# Altium integrated library ON Semi General Purpose Transistors.IntLib: 1679 symbols (part 15 of 36)
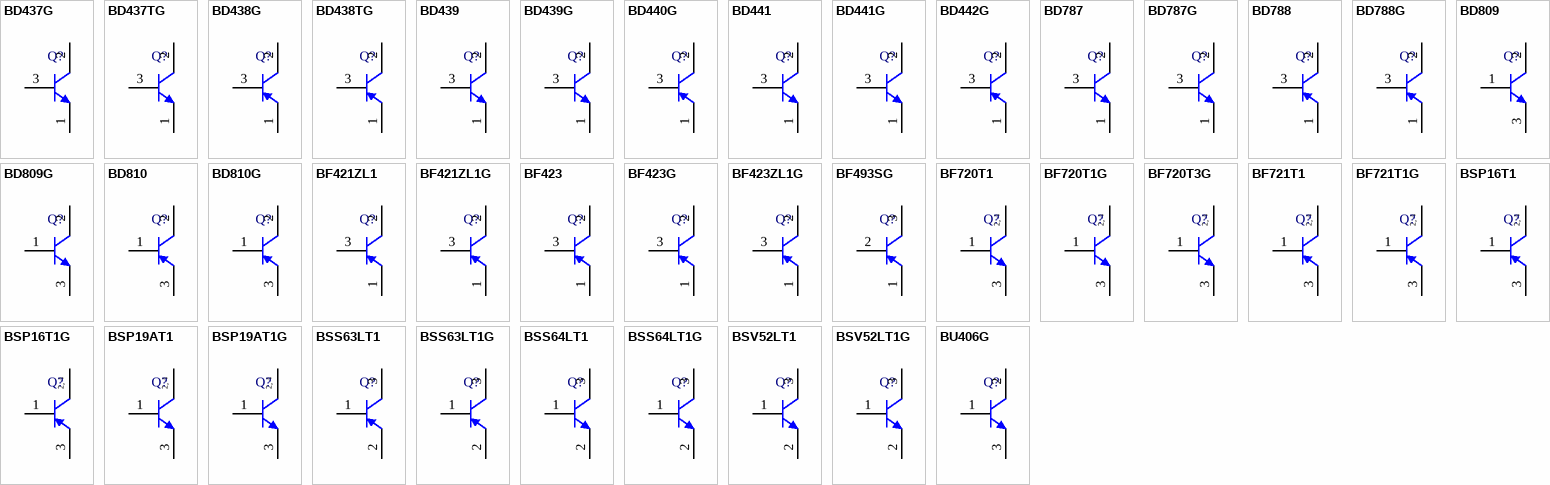
[diagram p59: symbols BD437G to BU406G]

## BF721T1G
designator Q?
PNP Silicon Transistor, 4-Pin SOT-223, Pb-Free, Tape and Reel; Manufacturer: On Semiconductor; PartNumber: BF721T1G; fT Min (MHz): 60; IC Continuous (A): -0.05; DatasheetVersion: Rev. 9; PackageVersion: Rev. N, 08/2009; PackageReference: SOT-223-4-318E-04; PackageDescription: 4-Pin Small Outline Transistor, Body 6.5 x 3.5 mm, Pitch 2.3 mm; Supplier 1: Digi-Key; Supplier Part Number 1: BF721T1GOSTR-ND; Supplier 2: Digi-Key; Supplier Part Number 2: BF721T1GOSCT-ND; Supplier 3: Digi-Key; Supplier Part Number 3: BF721T1GOSDKR-ND; Supplier 4: Farnell; Supplier Part Number 4: 1653613; Supplier 5: Newark; Supplier Part Number 5: 45J0621; Supplier 6: Mouser; Supplier Part Number 6: 863-BF721T1G; Packing: Tape and Reel; Polarity: PNP; RoHS: TRUE; Mounting Technology: Surface Mount; ComponentLink1Description: Manufacturer URL; ComponentLink1URL: http://www.onsemi.com/; ComponentLink2Description: Datasheet; ComponentLink2URL: http://www.onsemi.com/pub_link/Collateral/BF721T1-D.PDF; ComponentLink3Description: Package Specification; ComponentLink3URL: http://www.onsemi.com/pub_link/Collateral/318E-04.PDF
footprint ONSC-SOT-223-4-318E-04_V (SOT223, 4-Leads, Body 6.5x3.5mm, Pitch 2.3mm)
pins: 1 B, 2 C, 3 E, 4 C
text: 2, 4

## BSP16T1
designator Q?
High Voltage Transistor, PNP Silicon, 4-Pin SOT-223, Tape and Reel; Manufacturer: On Semiconductor; PartNumber: BSP16T1; fT Min (MHz): 15; IC Continuous (A): -0.1; DatasheetVersion: Rev. 7; PackageVersion: Rev. N, 08/2009; PackageReference: SOT-223-4-318E-04; PackageDescription: 4-Pin Small Outline Transistor, Body 6.5 x 3.5 mm, Pitch 2.3 mm; Supplier 1: Digi-Key; Supplier Part Number 1: BSP16T1-ND; Packing: Tape and Reel; Polarity: PNP; RoHS: FALSE; Mounting Technology: Surface Mount; ComponentLink1Description: Manufacturer URL; ComponentLink1URL: http://www.onsemi.com/; ComponentLink2Description: Datasheet; ComponentLink2URL: http://www.onsemi.com/pub_link/Collateral/BSP16T1-D.PDF; ComponentLink3Description: Package Specification; ComponentLink3URL: http://www.onsemi.com/pub_link/Collateral/318E-04.PDF
footprint ONSC-SOT-223-4-318E-04_V (SOT223, 4-Leads, Body 6.5x3.5mm, Pitch 2.3mm)
pins: 1 B, 2 C, 3 E, 4 C
text: 2, 4

## BSP16T1G
designator Q?
High Voltage Transistor, PNP Silicon, 4-Pin SOT-223, Pb-Free, Tape and Reel; Manufacturer: On Semiconductor; PartNumber: BSP16T1G; fT Min (MHz): 15; IC Continuous (A): -0.1; DatasheetVersion: Rev. 7; PackageVersion: Rev. N, 08/2009; PackageReference: SOT-223-4-318E-04; PackageDescription: 4-Pin Small Outline Transistor, Body 6.5 x 3.5 mm, Pitch 2.3 mm; Supplier 1: Digi-Key; Supplier Part Number 1: BSP16T1GOSTR-ND; Supplier 2: Digi-Key; Supplier Part Number 2: BSP16T1GOSCT-ND; Supplier 3: Digi-Key; Supplier Part Number 3: BSP16T1GOSDKR-ND; Supplier 4: Newark; Supplier Part Number 4: 45J0622; Supplier 5: Mouser; Supplier Part Number 5: 863-BSP16T1G; Packing: Tape and Reel; Polarity: PNP; RoHS: TRUE; Mounting Technology: Surface Mount; ComponentLink1Description: Manufacturer URL; ComponentLink1URL: http://www.onsemi.com/; ComponentLink2Description: Datasheet; ComponentLink2URL: http://www.onsemi.com/pub_link/Collateral/BSP16T1-D.PDF; ComponentLink3Description: Package Specification; ComponentLink3URL: http://www.onsemi.com/pub_link/Collateral/318E-04.PDF
footprint ONSC-SOT-223-4-318E-04_V (SOT223, 4-Leads, Body 6.5x3.5mm, Pitch 2.3mm)
pins: 1 B, 2 C, 3 E, 4 C
text: 2, 4

## BSP19AT1
designator Q?
NPN Silicon Expitaxial Transistor, 4-Pin SOT-223, Tape and Reel; Manufacturer: On Semiconductor; PartNumber: BSP19AT1; fT Min (MHz): 70; IC Continuous (A): 0.1; DatasheetVersion: Rev. 11; PackageVersion: Rev. N, 08/2009; PackageReference: SOT-223-4-318E-04; PackageDescription: 4-Pin Small Outline Transistor, Body 6.5 x 3.5 mm, Pitch 2.3 mm; Supplier 1: Digi-Key; Supplier Part Number 1: BSP19AT1OSCT-ND; Supplier 2: Digi-Key; Supplier Part Number 2: BSP19AT1OSDKR-ND; Packing: Tape and Reel; Polarity: NPN; RoHS: FALSE; Mounting Technology: Surface Mount; ComponentLink1Description: Manufacturer URL; ComponentLink1URL: http://www.onsemi.com/; ComponentLink2Description: Datasheet; ComponentLink2URL: http://www.onsemi.com/pub_link/Collateral/BSP19AT1-D.PDF; ComponentLink3Description: Package Specification; ComponentLink3URL: http://www.onsemi.com/pub_link/Collateral/318E-04.PDF
footprint ONSC-SOT-223-4-318E-04_V (SOT223, 4-Leads, Body 6.5x3.5mm, Pitch 2.3mm)
pins: 1 B, 2 C, 3 E, 4 C
text: 2, 4

## BSP19AT1G
designator Q?
NPN Silicon Expitaxial Transistor, 4-Pin SOT-223, Pb-Free, Tape and Reel; Manufacturer: On Semiconductor; PartNumber: BSP19AT1G; fT Min (MHz): 70; IC Continuous (A): 0.1; DatasheetVersion: Rev. 11; PackageVersion: Rev. N, 08/2009; PackageReference: SOT-223-4-318E-04; PackageDescription: 4-Pin Small Outline Transistor, Body 6.5 x 3.5 mm, Pitch 2.3 mm; Supplier 1: Digi-Key; Supplier Part Number 1: BSP19AT1GOSTR-ND; Supplier 2: Digi-Key; Supplier Part Number 2: BSP19AT1GOSCT-ND; Supplier 3: Digi-Key; Supplier Part Number 3: BSP19AT1GOSDKR-ND; Supplier 4: Newark; Supplier Part Number 4: 10N9392; Supplier 5: Newark; Supplier Part Number 5: 26K3536; Supplier 6: Mouser; Supplier Part Number 6: 863-BSP19AT1G; Packing: Tape and Reel; Polarity: NPN; RoHS: TRUE; Mounting Technology: Surface Mount; ComponentLink1Description: Manufacturer URL; ComponentLink1URL: http://www.onsemi.com/; ComponentLink2Description: Datasheet; ComponentLink2URL: http://www.onsemi.com/pub_link/Collateral/BSP19AT1-D.PDF; ComponentLink3Description: Package Specification; ComponentLink3URL: http://www.onsemi.com/pub_link/Collateral/318E-04.PDF
footprint ONSC-SOT-223-4-318E-04_V (SOT223, 4-Leads, Body 6.5x3.5mm, Pitch 2.3mm)
pins: 1 B, 2 C, 3 E, 4 C
text: 2, 4

## BSS63LT1
designator Q?
High Voltage Transistor, PNP Silicon, 3-Pin SOT-23, Tape and Reel; Manufacturer: On Semiconductor; PartNumber: BSS63LT1; Note: 0; fT Min (MHz): 50; IC Continuous (A): -0.1; DatasheetVersion: Rev. 6; PackageVersion: Rev. AP, 11/2009; PackageReference: SOT-23-3-318-08; PackageDescription: 3-Pin Small Outline Transistor, Body 2.92 x 1.3 mm, Pitch 0.95 mm; Packing: Tape and Reel; Polarity: PNP; RoHS: FALSE; Mounting Technology: Surface Mount; ComponentLink1Description: Manufacturer URL; ComponentLink1URL: http://www.onsemi.com/; ComponentLink2Description: Datasheet; ComponentLink2URL: http://www.onsemi.com/pub_link/Collateral/BSS63LT1-D.PDF; ComponentLink3Description: Package Specification; ComponentLink3URL: http://www.onsemi.cn/pub_link/Collateral/318-08.PDF
footprint ONSC-SOT-23-3-318-08_V (SOT23, 3-Leads, Body 2.92x1.3mm, Pitch 0.95mm)
pins: 1 B, 2 E, 3 C

## BSS63LT1G
designator Q?
High Voltage Transistor, PNP Silicon, 3-Pin SOT-23, Pb-Free, Tape and Reel; Manufacturer: On Semiconductor; PartNumber: BSS63LT1G; fT Min (MHz): 50; IC Continuous (A): -0.1; DatasheetVersion: Rev. 6; PackageVersion: Rev. AP, 11/2009; PackageReference: SOT-23-3-318-08; PackageDescription: 3-Pin Small Outline Transistor, Body 2.92 x 1.3 mm, Pitch 0.95 mm; Supplier 1: Digi-Key; Supplier Part Number 1: BSS63LT1GOSTR-ND; Supplier 2: Digi-Key; Supplier Part Number 2: BSS63LT1GOSCT-ND; Supplier 3: Digi-Key; Supplier Part Number 3: BSS63LT1GOSDKR-ND; Supplier 4: Farnell; Supplier Part Number 4: 2317592; Supplier 5: Farnell; Supplier Part Number 5: 2317860; Supplier 6: Newark; Supplier Part Number 6: 09R9393; Supplier 7: Newark; Supplier Part Number 7: 26K3538; Supplier 8: Mouser; Supplier Part Number 8: 863-BSS63LT1G; Packing: Tape and Reel; Polarity: PNP; RoHS: TRUE; Mounting Technology: Surface Mount; ComponentLink1Description: Manufacturer URL; ComponentLink1URL: http://www.onsemi.com/; ComponentLink2Description: Datasheet; ComponentLink2URL: http://www.onsemi.com/pub_link/Collateral/BSS63LT1-D.PDF; ComponentLink3Description: Package Specification; ComponentLink3URL: http://www.onsemi.cn/pub_link/Collateral/318-08.PDF
footprint ONSC-SOT-23-3-318-08_V (SOT23, 3-Leads, Body 2.92x1.3mm, Pitch 0.95mm)
pins: 1 B, 2 E, 3 C

## BSS64LT1
designator Q?
Driver Transistor, NPN Silicon, 3-Pin SOT-23, Tape and Reel; Manufacturer: On Semiconductor; PartNumber: BSS64LT1; fT Min (MHz): 60; IC Continuous (A): 0.1; DatasheetVersion: Rev. 5; PackageVersion: Rev. AP, 11/2009; PackageReference: SOT-23-3-318-08; PackageDescription: 3-Pin Small Outline Transistor, Body 2.92 x 1.3 mm, Pitch 0.95 mm; Supplier 1: Digi-Key; Supplier Part Number 1: BSS64LT1-ND; Packing: Tape and Reel; Polarity: NPN; RoHS: FALSE; Mounting Technology: Surface Mount; ComponentLink1Description: Manufacturer URL; ComponentLink1URL: http://www.onsemi.com/; ComponentLink2Description: Datasheet; ComponentLink2URL: http://www.onsemi.com/pub_link/Collateral/BSS64LT1-D.PDF; ComponentLink3Description: Package Specification; ComponentLink3URL: http://www.onsemi.cn/pub_link/Collateral/318-08.PDF
footprint ONSC-SOT-23-3-318-08_V (SOT23, 3-Leads, Body 2.92x1.3mm, Pitch 0.95mm)
pins: 1 B, 2 E, 3 C

## BSS64LT1G
designator Q?
Driver Transistor, NPN Silicon, 3-Pin SOT-23, Pb-Free, Tape and Reel; Manufacturer: On Semiconductor; PartNumber: BSS64LT1G; fT Min (MHz): 60; IC Continuous (A): 0.1; DatasheetVersion: Rev. 5; PackageVersion: Rev. AP, 11/2009; PackageReference: SOT-23-3-318-08; PackageDescription: 3-Pin Small Outline Transistor, Body 2.92 x 1.3 mm, Pitch 0.95 mm; Supplier 1: Digi-Key; Supplier Part Number 1: BSS64LT1GOSTR-ND; Supplier 2: Digi-Key; Supplier Part Number 2: BSS64LT1GOSCT-ND; Supplier 3: Digi-Key; Supplier Part Number 3: BSS64LT1GOSDKR-ND; Supplier 4: Newark; Supplier Part Number 4: 26K3539; Supplier 5: Mouser; Supplier Part Number 5: 863-BSS64LT1G; Packing: Tape and Reel; Polarity: NPN; RoHS: TRUE; Mounting Technology: Surface Mount; ComponentLink1Description: Manufacturer URL; ComponentLink1URL: http://www.onsemi.com/; ComponentLink2Description: Datasheet; ComponentLink2URL: http://www.onsemi.com/pub_link/Collateral/BSS64LT1-D.PDF; ComponentLink3Description: Package Specification; ComponentLink3URL: http://www.onsemi.cn/pub_link/Collateral/318-08.PDF
footprint ONSC-SOT-23-3-318-08_V (SOT23, 3-Leads, Body 2.92x1.3mm, Pitch 0.95mm)
pins: 1 B, 2 E, 3 C

## BSV52LT1
designator Q?
Switching Transistor, NPN Silicon, 3-Pin SOT-23, Tape and Reel; Manufacturer: On Semiconductor; PartNumber: BSV52LT1; fT Min (MHz): 400; IC Continuous (A): 0.1; DatasheetVersion: Rev. 3; PackageVersion: Rev. AP, 11/2009; PackageReference: SOT-23-3-318-08; PackageDescription: 3-Pin Small Outline Transistor, Body 2.92 x 1.3 mm, Pitch 0.95 mm; Supplier 1: Digi-Key; Supplier Part Number 1: BSV52LT1-ND; Packing: Tape and Reel; Polarity: NPN; RoHS: FALSE; Mounting Technology: Surface Mount; ComponentLink1Description: Manufacturer URL; ComponentLink1URL: http://www.onsemi.com/; ComponentLink2Description: Datasheet; ComponentLink2URL: http://www.onsemi.com/pub_link/Collateral/BSV52LT1-D.PDF; ComponentLink3Description: Package Specification; ComponentLink3URL: http://www.onsemi.cn/pub_link/Collateral/318-08.PDF
footprint ONSC-SOT-23-3-318-08_V (SOT23, 3-Leads, Body 2.92x1.3mm, Pitch 0.95mm)
pins: 1 B, 2 E, 3 C

## BSV52LT1G
designator Q?
Switching Transistor, NPN Silicon, 3-Pin SOT-23, Pb-Free, Tape and Reel; Manufacturer: On Semiconductor; PartNumber: BSV52LT1G; fT Min (MHz): 400; IC Continuous (A): 0.1; DatasheetVersion: Rev. 3; PackageVersion: Rev. AP, 11/2009; PackageReference: SOT-23-3-318-08; PackageDescription: 3-Pin Small Outline Transistor, Body 2.92 x 1.3 mm, Pitch 0.95 mm; Supplier 1: Digi-Key; Supplier Part Number 1: BSV52LT1GOSTR-ND; Supplier 2: Digi-Key; Supplier Part Number 2: BSV52LT1GOSCT-ND; Supplier 3: Digi-Key; Supplier Part Number 3: BSV52LT1GOSDKR-ND; Supplier 4: Farnell; Supplier Part Number 4: 2317878; Supplier 5: Farnell; Supplier Part Number 5: 2317548; Supplier 6: Newark; Supplier Part Number 6: 41K9627; Supplier 7: Newark; Supplier Part Number 7: 85W3131; Supplier 8: Mouser; Supplier Part Number 8: 863-BSV52LT1G; Packing: Tape and Reel; Polarity: NPN; RoHS: TRUE; Mounting Technology: Surface Mount; ComponentLink1Description: Manufacturer URL; ComponentLink1URL: http://www.onsemi.com/; ComponentLink2Description: Datasheet; ComponentLink2URL: http://www.onsemi.com/pub_link/Collateral/BSV52LT1-D.PDF; ComponentLink3Description: Package Specification; ComponentLink3URL: http://www.onsemi.cn/pub_link/Collateral/318-08.PDF
footprint ONSC-SOT-23-3-318-08_V (SOT23, 3-Leads, Body 2.92x1.3mm, Pitch 0.95mm)
pins: 1 B, 2 E, 3 C

## BU406G
designator Q?
NPN Power Transistor, 3-Pin TO-220, Pb-Free, Tube; Manufacturer: On Semiconductor; PartNumber: BU406G; fT Min (MHz): 10; IC Continuous (A): 7; DatasheetVersion: Rev. 10; PackageVersion: Rev. AG, 09/2011; PackageReference: TO-220-3-221A-09; PackageDescription: 3-Pin Flange Mount, Vertical Straight Lead, Body 9.97 x 4.445 mm, Pitch 2.54 mm; Supplier 1: Digi-Key; Supplier Part Number 1: BU406GOS-ND; Supplier 2: Newark; Supplier Part Number 2: 26K3557; Supplier 3: Mouser; Supplier Part Number 3: 863-BU406G; Packing: Tube; Polarity: NPN; RoHS: TRUE; Mounting Technology: Through Hole; ComponentLink1Description: Manufacturer URL; ComponentLink1URL: http://www.onsemi.com/; ComponentLink2Description: Datasheet; ComponentLink2URL: http://www.onsemi.com/pub_link/Collateral/BU406-D.PDF; ComponentLink3Description: Package Specification; ComponentLink3URL: http://www.onsemi.com/pub_link/Collateral/221A-09.PDF
footprint ONSC-TO-220-3-221A-09 (FM, 3-Leads, Body 10.3x4.85mm, Pitch 2.54mm)
pins: 1 B, 2 C, 3 E

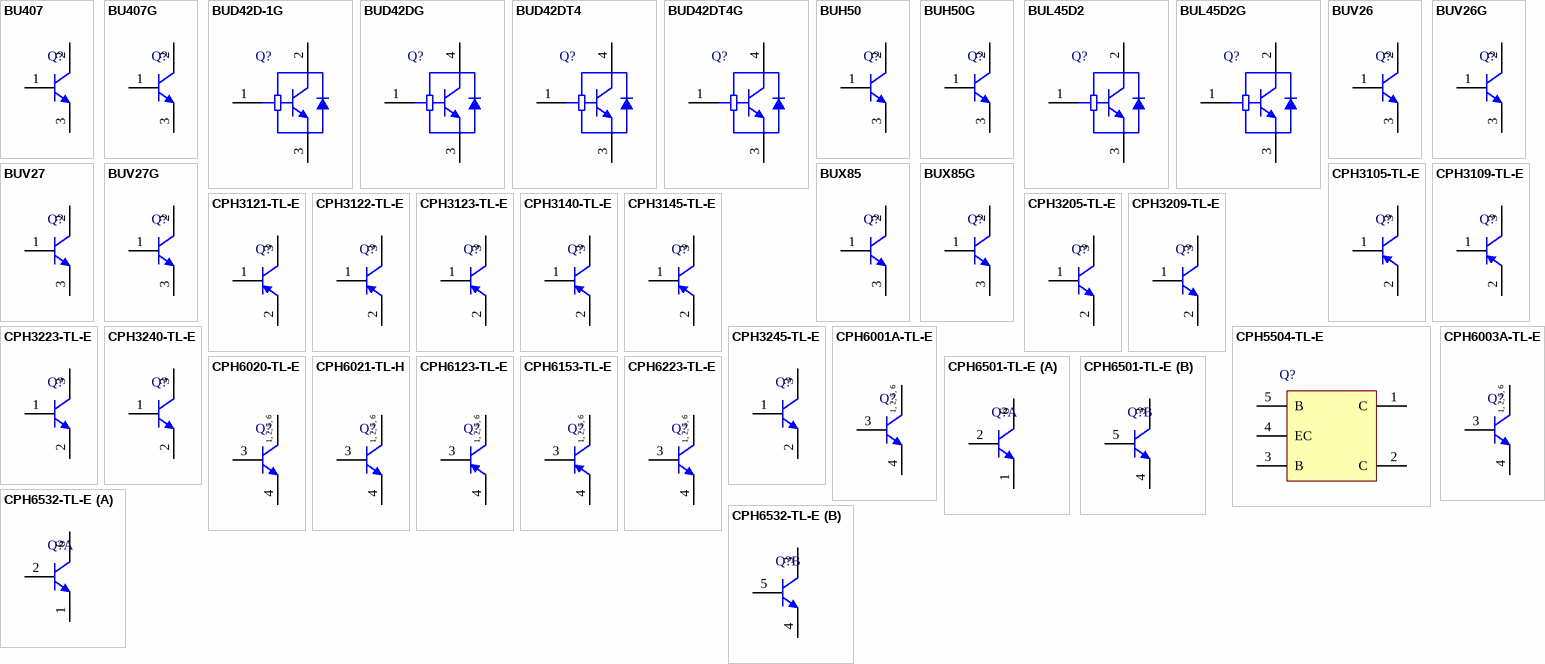
[diagram p18: symbols BU407 to CPH6532-TL-E]

## BU407
designator Q?
NPN Power Transistor, 3-Pin TO-220, Tube; Manufacturer: On Semiconductor; PartNumber: BU407; Note: 0; fT Min (MHz): 10; IC Continuous (A): 7; DatasheetVersion: Rev. 10; PackageVersion: Rev. AG, 09/2011; PackageReference: TO-220-3-221A-09; PackageDescription: 3-Pin Flange Mount, Vertical Straight Lead, Body 9.97 x 4.445 mm, Pitch 2.54 mm; Packing: Tube; Polarity: NPN; RoHS: FALSE; Mounting Technology: Through Hole; ComponentLink1Description: Manufacturer URL; ComponentLink1URL: http://www.onsemi.com/; ComponentLink2Description: Datasheet; ComponentLink2URL: http://www.onsemi.com/pub_link/Collateral/BU406-D.PDF; ComponentLink3Description: Package Specification; ComponentLink3URL: http://www.onsemi.com/pub_link/Collateral/221A-09.PDF
footprint ONSC-TO-220-3-221A-09 (FM, 3-Leads, Body 10.3x4.85mm, Pitch 2.54mm)
pins: 1 B, 2 C, 3 E

## BU407G
designator Q?
NPN Power Transistor, 3-Pin TO-220, Pb-Free, Tube; Manufacturer: On Semiconductor; PartNumber: BU407G; fT Min (MHz): 10; IC Continuous (A): 7; DatasheetVersion: Rev. 10; PackageVersion: Rev. AG, 09/2011; PackageReference: TO-220-3-221A-09; PackageDescription: 3-Pin Flange Mount, Vertical Straight Lead, Body 9.97 x 4.445 mm, Pitch 2.54 mm; Supplier 1: Mouser; Supplier Part Number 1: 863-BU407G; Packing: Tube; Polarity: NPN; RoHS: TRUE; Mounting Technology: Through Hole; ComponentLink1Description: Manufacturer URL; ComponentLink1URL: http://www.onsemi.com/; ComponentLink2Description: Datasheet; ComponentLink2URL: http://www.onsemi.com/pub_link/Collateral/BU406-D.PDF; ComponentLink3Description: Package Specification; ComponentLink3URL: http://www.onsemi.com/pub_link/Collateral/221A-09.PDF
footprint ONSC-TO-220-3-221A-09 (FM, 3-Leads, Body 10.3x4.85mm, Pitch 2.54mm)
pins: 1 B, 2 C, 3 E

## BUD42D-1G
designator Q?
High Speed, High Gain Bipolar NPN Transistor with Antisaturation Network and Transient Voltage Suppression Capability, 3-Pin IPAK, Pb-Free, Tube; Manufacturer: On Semiconductor; PartNumber: BUD42D-1G; IC Continuous (A): 4; DatasheetVersion: Rev. 6; PackageVersion: Rev. C, 12/2010; PackageReference: IPAK-3-369D-01; PackageDescription: 3-Pin Flange Mount, Vertical Straight Lead, Body 6.54 x 2.285 mm, Pitch 2.29 mm; Supplier 1: Digi-Key; Supplier Part Number 1: BUD42D-1G-ND; Supplier 2: Mouser; Supplier Part Number 2: 863-BUD42D-1G; Packing: Tube; Polarity: NPN; RoHS: TRUE; Mounting Technology: Through Hole; Code_JEDEC: TO-251; ComponentLink1Description: Manufacturer URL; ComponentLink1URL: http://www.onsemi.com/; ComponentLink2Description: Datasheet; ComponentLink2URL: http://www.onsemi.com/pub_link/Collateral/BUD42D-D.PDF; ComponentLink3Description: Package Specification; ComponentLink3URL: http://www.onsemi.cn/pub_link/Collateral/369D.PDF
footprint ONSC-IPAK-3-369D-01 (FM, 3-Leads, Body 6.75x2.4mm, Pitch 2.29mm)
pins: 1 B, 2 C, 3 E

## BUD42DG
designator Q?
High Speed, High Gain Bipolar NPN Transistor with Antisaturation Network and Transient Voltage Suppression Capability, 3-Pin DPAK, Pb-Free, Tube; Manufacturer: On Semiconductor; PartNumber: BUD42DG; IC Continuous (A): 4; DatasheetVersion: Rev. 6; PackageVersion: Rev. E, 02/2014; PackageReference: DPAK-3-369C-01; PackageDescription: 3-Pin Flange Mount, Body 6.54 x 6.095 mm, Pitch 2.29 mm; Supplier 1: Digi-Key; Supplier Part Number 1: BUD42DG-ND; Supplier 2: Mouser; Supplier Part Number 2: 863-BUD42DG; Packing: Tube; Polarity: NPN; RoHS: TRUE; Mounting Technology: Surface Mount; ComponentLink1Description: Manufacturer URL; ComponentLink1URL: http://www.onsemi.com/; ComponentLink2Description: Datasheet; ComponentLink2URL: http://www.onsemi.com/pub_link/Collateral/BUD42D-D.PDF; ComponentLink3Description: Package Specification; ComponentLink3URL: http://www.onsemi.cn/pub_link/Collateral/369C.PDF
footprint ONSC-DPAK-3-369C-01_V (DPAK, 3-Leads, Body 6.54x6.095mm, Pitch 2.29mm)
pins: 1 B, 3 E, 4 C

## BUD42DT4
designator Q?
High Speed, High Gain Bipolar NPN Transistor with Antisaturation Network and Transient Voltage Suppression Capability, 3-Pin DPAK, Tape and Reel; Manufacturer: On Semiconductor; PartNumber: BUD42DT4; IC Continuous (A): 4; DatasheetVersion: Rev. 6; PackageVersion: Rev. E, 02/2014; PackageReference: DPAK-3-369C-01; PackageDescription: 3-Pin Flange Mount, Body 6.54 x 6.095 mm, Pitch 2.29 mm; Supplier 1: Digi-Key; Supplier Part Number 1: BUD42DT4OS-ND; Packing: Tape and Reel; Polarity: NPN; RoHS: FALSE; Mounting Technology: Surface Mount; ComponentLink1Description: Manufacturer URL; ComponentLink1URL: http://www.onsemi.com/; ComponentLink2Description: Datasheet; ComponentLink2URL: http://www.onsemi.com/pub_link/Collateral/BUD42D-D.PDF; ComponentLink3Description: Package Specification; ComponentLink3URL: http://www.onsemi.cn/pub_link/Collateral/369C.PDF
footprint ONSC-DPAK-3-369C-01_V (DPAK, 3-Leads, Body 6.54x6.095mm, Pitch 2.29mm)
pins: 1 B, 3 E, 4 C

## BUD42DT4G
designator Q?
High Speed, High Gain Bipolar NPN Transistor with Antisaturation Network and Transient Voltage Suppression Capability, 3-Pin DPAK, Pb-Free, Tape and Reel; Manufacturer: On Semiconductor; PartNumber: BUD42DT4G; IC Continuous (A): 4; DatasheetVersion: Rev. 6; PackageVersion: Rev. E, 02/2014; PackageReference: DPAK-3-369C-01; PackageDescription: 3-Pin Flange Mount, Body 6.54 x 6.095 mm, Pitch 2.29 mm; Supplier 1: Digi-Key; Supplier Part Number 1: BUD42DT4GOS-ND; Supplier 2: Mouser; Supplier Part Number 2: 863-BUD42DT4G; Packing: Tape and Reel; Polarity: NPN; RoHS: TRUE; Mounting Technology: Surface Mount; ComponentLink1Description: Manufacturer URL; ComponentLink1URL: http://www.onsemi.com/; ComponentLink2Description: Datasheet; ComponentLink2URL: http://www.onsemi.com/pub_link/Collateral/BUD42D-D.PDF; ComponentLink3Description: Package Specification; ComponentLink3URL: http://www.onsemi.cn/pub_link/Collateral/369C.PDF
footprint ONSC-DPAK-3-369C-01_V (DPAK, 3-Leads, Body 6.54x6.095mm, Pitch 2.29mm)
pins: 1 B, 3 E, 4 C

## BUH50
designator Q?
SWITCHMODE NPN Silicon Planar Power Transistor, 3-Pin TO-220, Tube; Manufacturer: On Semiconductor; PartNumber: BUH50; fT Min (MHz): 4; DatasheetVersion: Rev. 7; PackageVersion: Rev. AG, 09/2011; PackageReference: TO-220-3-221A-09; PackageDescription: 3-Pin Flange Mount, Vertical Straight Lead, Body 9.97 x 4.445 mm, Pitch 2.54 mm; Supplier 1: Digi-Key; Supplier Part Number 1: BUH50-ND; IC Continuous (A): 4; Packing: Tube; Polarity: NPN; RoHS: FALSE; Mounting Technology: Through Hole; ComponentLink1Description: Manufacturer URL; ComponentLink1URL: http://www.onsemi.com/; ComponentLink2Description: Datasheet; ComponentLink2URL: http://www.onsemi.com/pub_link/Collateral/BUH50-D.PDF; ComponentLink3Description: Package Specification; ComponentLink3URL: http://www.onsemi.com/pub_link/Collateral/221A-09.PDF
footprint ONSC-TO-220-3-221A-09 (FM, 3-Leads, Body 10.3x4.85mm, Pitch 2.54mm)
pins: 1 B, 2 C, 3 E

## BUH50G
designator Q?
SWITCHMODE NPN Silicon Planar Power Transistor, 3-Pin TO-220, Pb-Free, Tube; Manufacturer: On Semiconductor; PartNumber: BUH50G; fT Min (MHz): 4; DatasheetVersion: Rev. 7; PackageVersion: Rev. AG, 09/2011; PackageReference: TO-220-3-221A-09; PackageDescription: 3-Pin Flange Mount, Vertical Straight Lead, Body 9.97 x 4.445 mm, Pitch 2.54 mm; Supplier 1: Digi-Key; Supplier Part Number 1: BUH50GOS-ND; Supplier 2: Newark; Supplier Part Number 2: 26K3544; Supplier 3: Mouser; Supplier Part Number 3: 863-BUH50G; IC Continuous (A): 4; Packing: Tube; Polarity: NPN; RoHS: TRUE; Mounting Technology: Through Hole; ComponentLink1Description: Manufacturer URL; ComponentLink1URL: http://www.onsemi.com/; ComponentLink2Description: Datasheet; ComponentLink2URL: http://www.onsemi.com/pub_link/Collateral/BUH50-D.PDF; ComponentLink3Description: Package Specification; ComponentLink3URL: http://www.onsemi.com/pub_link/Collateral/221A-09.PDF
footprint ONSC-TO-220-3-221A-09 (FM, 3-Leads, Body 10.3x4.85mm, Pitch 2.54mm)
pins: 1 B, 2 C, 3 E

## BUL45D2
designator Q?
High Speed, High Gain Bipolar NPN Power Transistor, 3-Pin TO-220, Tube; Manufacturer: On Semiconductor; PartNumber: BUL45D2; IC Continuous (A): 5; DatasheetVersion: Rev. 7; PackageVersion: Rev. AG, 09/2011; PackageReference: TO-220-3-221A-09; PackageDescription: 3-Pin Flange Mount, Vertical Straight Lead, Body 9.97 x 4.445 mm, Pitch 2.54 mm; Supplier 1: Digi-Key; Supplier Part Number 1: BUL45D2OS-ND; Packing: Tube; Polarity: NPN; RoHS: FALSE; Mounting Technology: Through Hole; ComponentLink1Description: Manufacturer URL; ComponentLink1URL: http://www.onsemi.com/; ComponentLink2Description: Datasheet; ComponentLink2URL: http://www.onsemi.com/pub_link/Collateral/BUL45D2-D.PDF; ComponentLink3Description: Package Specification; ComponentLink3URL: http://www.onsemi.com/pub_link/Collateral/221A-09.PDF
footprint ONSC-TO-220-3-221A-09 (FM, 3-Leads, Body 10.3x4.85mm, Pitch 2.54mm)
pins: 1 B, 2 C, 3 E

## BUL45D2G
designator Q?
High Speed, High Gain Bipolar NPN Power Transistor, 3-Pin TO-220, Pb-Free, Tube; Manufacturer: On Semiconductor; PartNumber: BUL45D2G; IC Continuous (A): 5; DatasheetVersion: Rev. 7; PackageVersion: Rev. AG, 09/2011; PackageReference: TO-220-3-221A-09; PackageDescription: 3-Pin Flange Mount, Vertical Straight Lead, Body 9.97 x 4.445 mm, Pitch 2.54 mm; Supplier 1: Digi-Key; Supplier Part Number 1: BUL45D2GOS-ND; Supplier 2: Farnell; Supplier Part Number 2: 1354333; Supplier 3: Newark; Supplier Part Number 3: 26K3550; Supplier 4: Mouser; Supplier Part Number 4: 863-BUL45D2G; Packing: Tube; Polarity: NPN; RoHS: TRUE; Mounting Technology: Through Hole; ComponentLink1Description: Manufacturer URL; ComponentLink1URL: http://www.onsemi.com/; ComponentLink2Description: Datasheet; ComponentLink2URL: http://www.onsemi.com/pub_link/Collateral/BUL45D2-D.PDF; ComponentLink3Description: Package Specification; ComponentLink3URL: http://www.onsemi.com/pub_link/Collateral/221A-09.PDF
footprint ONSC-TO-220-3-221A-09 (FM, 3-Leads, Body 10.3x4.85mm, Pitch 2.54mm)
pins: 1 B, 2 C, 3 E

## BUV26
designator Q?
Switchmode Series NPN Silicon Power Transistor, 3-Pin TO-220, Tube; Manufacturer: On Semiconductor; PartNumber: BUV26; Note: 0; IC Continuous (A): 20; DatasheetVersion: Rev. 5; PackageVersion: Rev. AG, 09/2011; PackageReference: TO-220-3-221A-09; PackageDescription: 3-Pin Flange Mount, Vertical Straight Lead, Body 9.97 x 4.445 mm, Pitch 2.54 mm; Packing: Tube; Polarity: NPN; RoHS: FALSE; Mounting Technology: Through Hole; ComponentLink1Description: Manufacturer URL; ComponentLink1URL: http://www.onsemi.com/; ComponentLink2Description: Datasheet; ComponentLink2URL: http://www.onsemi.com/pub_link/Collateral/BUV26-D.PDF; ComponentLink3Description: Package Specification; ComponentLink3URL: http://www.onsemi.com/pub_link/Collateral/221A-09.PDF
footprint ONSC-TO-220-3-221A-09 (FM, 3-Leads, Body 10.3x4.85mm, Pitch 2.54mm)
pins: 1 B, 2 C, 3 E

## BUV26G
designator Q?
Switchmode Series NPN Silicon Power Transistor, 3-Pin TO-220, Pb-Free, Tube; Manufacturer: On Semiconductor; PartNumber: BUV26G; IC Continuous (A): 20; DatasheetVersion: Rev. 5; PackageVersion: Rev. AG, 09/2011; PackageReference: TO-220-3-221A-09; PackageDescription: 3-Pin Flange Mount, Vertical Straight Lead, Body 9.97 x 4.445 mm, Pitch 2.54 mm; Supplier 1: Digi-Key; Supplier Part Number 1: BUV26GOS-ND; Supplier 2: Farnell; Supplier Part Number 2: 2317573; Supplier 3: Newark; Supplier Part Number 3: 90W4321; Supplier 4: Newark; Supplier Part Number 4: 26K3554; Supplier 5: Mouser; Supplier Part Number 5: 863-BUV26G; Packing: Tube; Polarity: NPN; RoHS: TRUE; Mounting Technology: Through Hole; ComponentLink1Description: Manufacturer URL; ComponentLink1URL: http://www.onsemi.com/; ComponentLink2Description: Datasheet; ComponentLink2URL: http://www.onsemi.com/pub_link/Collateral/BUV26-D.PDF; ComponentLink3Description: Package Specification; ComponentLink3URL: http://www.onsemi.com/pub_link/Collateral/221A-09.PDF
footprint ONSC-TO-220-3-221A-09 (FM, 3-Leads, Body 10.3x4.85mm, Pitch 2.54mm)
pins: 1 B, 2 C, 3 E

## BUV27
designator Q?
NPN Silicon Power Transistor, 3-Pin TO-220, Tube; Manufacturer: On Semiconductor; PartNumber: BUV27; Note: 0; IC Continuous (A): 12; DatasheetVersion: Rev. 3; PackageVersion: Rev. AG, 09/2011; PackageReference: TO-220-3-221A-09; PackageDescription: 3-Pin Flange Mount, Vertical Straight Lead, Body 9.97 x 4.445 mm, Pitch 2.54 mm; Packing: Tube; Polarity: NPN; RoHS: FALSE; Mounting Technology: Through Hole; ComponentLink1Description: Manufacturer URL; ComponentLink1URL: http://www.onsemi.com/; ComponentLink2Description: Datasheet; ComponentLink2URL: http://www.onsemi.com/pub_link/Collateral/BUV27-D.PDF; ComponentLink3Description: Package Specification; ComponentLink3URL: http://www.onsemi.com/pub_link/Collateral/221A-09.PDF
footprint ONSC-TO-220-3-221A-09 (FM, 3-Leads, Body 10.3x4.85mm, Pitch 2.54mm)
pins: 1 B, 2 C, 3 E

## BUV27G
designator Q?
NPN Silicon Power Transistor, 3-Pin TO-220, Pb-Free, Tube; Manufacturer: On Semiconductor; PartNumber: BUV27G; IC Continuous (A): 12; DatasheetVersion: Rev. 3; PackageVersion: Rev. AG, 09/2011; PackageReference: TO-220-3-221A-09; PackageDescription: 3-Pin Flange Mount, Vertical Straight Lead, Body 9.97 x 4.445 mm, Pitch 2.54 mm; Supplier 1: Digi-Key; Supplier Part Number 1: BUV27G-ND; Supplier 2: Newark; Supplier Part Number 2: 26K3555; Supplier 3: Mouser; Supplier Part Number 3: 863-BUV27G; Packing: Tube; Polarity: NPN; RoHS: TRUE; Mounting Technology: Through Hole; ComponentLink1Description: Manufacturer URL; ComponentLink1URL: http://www.onsemi.com/; ComponentLink2Description: Datasheet; ComponentLink2URL: http://www.onsemi.com/pub_link/Collateral/BUV27-D.PDF; ComponentLink3Description: Package Specification; ComponentLink3URL: http://www.onsemi.com/pub_link/Collateral/221A-09.PDF
footprint ONSC-TO-220-3-221A-09 (FM, 3-Leads, Body 10.3x4.85mm, Pitch 2.54mm)
pins: 1 B, 2 C, 3 E

## BUX85
designator Q?
SWITCHMODE NPN Silicon Power Transistor, 3-Pin TO-220, Tube; Manufacturer: On Semiconductor; PartNumber: BUX85; fT Min (MHz): 4; IC Continuous (A): 2; DatasheetVersion: Rev. 16; PackageVersion: Rev. AG, 09/2011; PackageReference: TO-220-3-221A-09; PackageDescription: 3-Pin Flange Mount, Vertical Straight Lead, Body 9.97 x 4.445 mm, Pitch 2.54 mm; Supplier 1: Digi-Key; Supplier Part Number 1: BUX85OS-ND; Packing: Tube; Polarity: NPN; RoHS: FALSE; Mounting Technology: Through Hole; ComponentLink1Description: Manufacturer URL; ComponentLink1URL: http://www.onsemi.com/; ComponentLink2Description: Datasheet; ComponentLink2URL: http://www.onsemi.com/pub_link/Collateral/BUX85-D.PDF; ComponentLink3Description: Package Specification; ComponentLink3URL: http://www.onsemi.com/pub_link/Collateral/221A-09.PDF
footprint ONSC-TO-220-3-221A-09 (FM, 3-Leads, Body 10.3x4.85mm, Pitch 2.54mm)
pins: 1 B, 2 C, 3 E

## BUX85G
designator Q?
SWITCHMODE NPN Silicon Power Transistor, 3-Pin TO-220, Pb-Free, Tube; Manufacturer: On Semiconductor; PartNumber: BUX85G; fT Min (MHz): 4; IC Continuous (A): 2; DatasheetVersion: Rev. 16; PackageVersion: Rev. AG, 09/2011; PackageReference: TO-220-3-221A-09; PackageDescription: 3-Pin Flange Mount, Vertical Straight Lead, Body 9.97 x 4.445 mm, Pitch 2.54 mm; Supplier 1: Digi-Key; Supplier Part Number 1: BUX85GOS-ND; Supplier 2: Farnell; Supplier Part Number 2: 1703976; Supplier 3: Newark; Supplier Part Number 3: 41K9631; Supplier 4: Mouser; Supplier Part Number 4: 863-BUX85G; Packing: Tube; Polarity: NPN; RoHS: TRUE; Mounting Technology: Through Hole; ComponentLink1Description: Manufacturer URL; ComponentLink1URL: http://www.onsemi.com/; ComponentLink2Description: Datasheet; ComponentLink2URL: http://www.onsemi.com/pub_link/Collateral/BUX85-D.PDF; ComponentLink3Description: Package Specification; ComponentLink3URL: http://www.onsemi.com/pub_link/Collateral/221A-09.PDF
footprint ONSC-TO-220-3-221A-09 (FM, 3-Leads, Body 10.3x4.85mm, Pitch 2.54mm)
pins: 1 B, 2 C, 3 E

## CPH3105-TL-E
designator Q?
Bipolar Transistor, -50 V, -3 A, Low VCE(sat), PNP Single, 3-Pin CPH, Pb-Free, Tape and Reel; Manufacturer: On Semiconductor; PartNumber: CPH3105-TL-E; PackageReference: CPH-3; PackageDescription: 3-Pin Small Outline Transistor, Body 2.9 x 1.6 mm, Pitch 0.95 mm; Supplier 1: Digi-Key; Supplier Part Number 1: CPH3105-TL-E-ND; Supplier 2: Mouser; Supplier Part Number 2: 863-CPH3105-TL-E; IC Continuous (A): -3; Packing: Tape and Reel; Polarity: PNP; RoHS: TRUE; Mounting Technology: Surface Mount; ComponentLink1Description: Manufacturer URL; ComponentLink1URL: http://www.onsemi.com/; ComponentLink2Description: Datasheet; ComponentLink2URL: http://www.onsemi.com/pub_link/Collateral/EN6084-D.PDF; ComponentLink3Description: Package Specification; ComponentLink3URL: http://www.onsemi.com/pub_link/Collateral/50A02CH-D.PDF
footprint ONSC-CPH-3_V (SOT23, 3-Leads, Body 2.9x1.6mm, Pitch 0.95mm)
pins: 1 B, 2 E, 3 C

## CPH3109-TL-E
designator Q?
Bipolar Transistor, -30 V, -3 A, Low VCE(sat), PNP Single, 3-Pin CPH, Pb-Free, Tape and Reel; Manufacturer: On Semiconductor; PartNumber: CPH3109-TL-E; PackageReference: CPH-3; PackageDescription: 3-Pin Small Outline Transistor, Body 2.9 x 1.6 mm, Pitch 0.95 mm; Supplier 1: Digi-Key; Supplier Part Number 1: CPH3109-TL-E-ND; Supplier 2: Mouser; Supplier Part Number 2: 863-CPH3109-TL-E; IC Continuous (A): -3; Packing: Tape and Reel; Polarity: PNP; RoHS: TRUE; Mounting Technology: Surface Mount; ComponentLink1Description: Manufacturer URL; ComponentLink1URL: http://www.onsemi.com/; ComponentLink2Description: Datasheet; ComponentLink2URL: http://www.onsemi.com/pub_link/Collateral/EN6078-D.PDF; ComponentLink3Description: Package Specification; ComponentLink3URL: http://www.onsemi.com/pub_link/Collateral/50A02CH-D.PDF
footprint ONSC-CPH-3_V (SOT23, 3-Leads, Body 2.9x1.6mm, Pitch 0.95mm)
pins: 1 B, 2 E, 3 C

## CPH3121-TL-E
designator Q?
PNP Epitaxial Planar Silicon Transistor, DC / DC Converter Application, 3-Pin CPH, Pb-Free, Tape and Reel; Manufacturer: On Semiconductor; PartNumber: CPH3121-TL-E; IC Continuous (A): -3; PackageReference: CPH-3; PackageDescription: 3-Pin Small Outline Transistor, Body 2.9 x 1.6 mm, Pitch 0.95 mm; Supplier 1: Digi-Key; Supplier Part Number 1: CPH3121-TL-E-ND; Supplier 2: Mouser; Supplier Part Number 2: 863-CPH3121-TL-E; Packing: Tape and Reel; Polarity: PNP; RoHS: TRUE; Mounting Technology: Surface Mount; ComponentLink1Description: Manufacturer URL; ComponentLink1URL: http://www.onsemi.com/; ComponentLink2Description: Datasheet; ComponentLink2URL: http://www.onsemi.com/pub_link/Collateral/CPH3121-D.PDF; ComponentLink3Description: Package Specification; ComponentLink3URL: http://www.onsemi.com/pub_link/Collateral/50A02CH-D.PDF
footprint ONSC-CPH-3_V (SOT23, 3-Leads, Body 2.9x1.6mm, Pitch 0.95mm)
pins: 1 B, 2 E, 3 C

## CPH3122-TL-E
designator Q?
Bipolar Transistor, -30 V, -3 A, Low VCE(sat), PNP Single, 3-Pin CPH, Pb-Free, Tape and Reel; Manufacturer: On Semiconductor; PartNumber: CPH3122-TL-E; PackageReference: CPH-3; PackageDescription: 3-Pin Small Outline Transistor, Body 2.9 x 1.6 mm, Pitch 0.95 mm; Supplier 1: Digi-Key; Supplier Part Number 1: CPH3122-TL-E-ND; Supplier 2: Mouser; Supplier Part Number 2: 863-CPH3122-TL-E; IC Continuous (A): -3; Packing: Tape and Reel; Polarity: PNP; RoHS: TRUE; Mounting Technology: Surface Mount; ComponentLink1Description: Manufacturer URL; ComponentLink1URL: http://www.onsemi.com/; ComponentLink2Description: Datasheet; ComponentLink2URL: http://www.onsemi.com/pub_link/Collateral/CPH3122-D.PDF; ComponentLink3Description: Package Specification; ComponentLink3URL: http://www.onsemi.com/pub_link/Collateral/50A02CH-D.PDF
footprint ONSC-CPH-3_V (SOT23, 3-Leads, Body 2.9x1.6mm, Pitch 0.95mm)
pins: 1 B, 2 E, 3 C

## CPH3123-TL-E
designator Q?
Bipolar Transistor, -50 V, -3 A, Low VCE(sat), PNP Single, 3-Pin CPH, Pb-Free, Tape and Reel; Manufacturer: On Semiconductor; PartNumber: CPH3123-TL-E; PackageReference: CPH-3; PackageDescription: 3-Pin Small Outline Transistor, Body 2.9 x 1.6 mm, Pitch 0.95 mm; Supplier 1: Digi-Key; Supplier Part Number 1: CPH3123-TL-E-ND; Supplier 2: Mouser; Supplier Part Number 2: 863-CPH3123-TL-E; IC Continuous (A): -3; Packing: Tape and Reel; Polarity: PNP; RoHS: TRUE; Mounting Technology: Surface Mount; ComponentLink1Description: Manufacturer URL; ComponentLink1URL: http://www.onsemi.com/; ComponentLink2Description: Datasheet; ComponentLink2URL: http://www.onsemi.com/pub_link/Collateral/EN7221-D.PDF; ComponentLink3Description: Package Specification; ComponentLink3URL: http://www.onsemi.com/pub_link/Collateral/50A02CH-D.PDF
footprint ONSC-CPH-3_V (SOT23, 3-Leads, Body 2.9x1.6mm, Pitch 0.95mm)
pins: 1 B, 2 E, 3 C

## CPH3140-TL-E
designator Q?
Bipolar Transistor, -100 V, -1 A, Low VCE(sat), PNP Single, 3-Pin CPH, Pb-Free, Tape and Reel; Manufacturer: On Semiconductor; PartNumber: CPH3140-TL-E; PackageReference: CPH-3; PackageDescription: 3-Pin Small Outline Transistor, Body 2.9 x 1.6 mm, Pitch 0.95 mm; Supplier 1: Digi-Key; Supplier Part Number 1: CPH3140-TL-E-ND; Supplier 2: Mouser; Supplier Part Number 2: 863-CPH3140-TL-E; IC Continuous (A): -1; Packing: Tape and Reel; Polarity: PNP; RoHS: TRUE; Mounting Technology: Surface Mount; ComponentLink1Description: Manufacturer URL; ComponentLink1URL: http://www.onsemi.com/; ComponentLink2Description: Datasheet; ComponentLink2URL: http://www.onsemi.com/pub_link/Collateral/EN7907-D.PDF; ComponentLink3Description: Package Specification; ComponentLink3URL: http://www.onsemi.com/pub_link/Collateral/50A02CH-D.PDF
footprint ONSC-CPH-3_V (SOT23, 3-Leads, Body 2.9x1.6mm, Pitch 0.95mm)
pins: 1 B, 2 E, 3 C

## CPH3145-TL-E
designator Q?
Bipolar Transistor, -50 V, -2 A, Low VCE(sat), PNP Single, 3-Pin CPH, Pb-Free, Tape and Reel; Manufacturer: On Semiconductor; PartNumber: CPH3145-TL-E; PackageReference: CPH-3; PackageDescription: 3-Pin Small Outline Transistor, Body 2.9 x 1.6 mm, Pitch 0.95 mm; Supplier 1: Digi-Key; Supplier Part Number 1: 869-1120-2-ND; Supplier 2: Digi-Key; Supplier Part Number 2: 869-1120-1-ND; Supplier 3: Digi-Key; Supplier Part Number 3: 869-1120-6-ND; Supplier 4: Mouser; Supplier Part Number 4: 863-CPH3145-TL-E; IC Continuous (A): -2; Packing: Tape and Reel; Polarity: PNP; RoHS: TRUE; Mounting Technology: Surface Mount; ComponentLink1Description: Manufacturer URL; ComponentLink1URL: http://www.onsemi.com/; ComponentLink2Description: Datasheet; ComponentLink2URL: http://www.onsemi.com/pub_link/Collateral/EN8166-D.PDF; ComponentLink3Description: Package Specification; ComponentLink3URL: http://www.onsemi.com/pub_link/Collateral/50A02CH-D.PDF
footprint ONSC-CPH-3_V (SOT23, 3-Leads, Body 2.9x1.6mm, Pitch 0.95mm)
pins: 1 B, 2 E, 3 C

## CPH3205-TL-E
designator Q?
Bipolar Transistor, 50 V, 3 A, Low VCE(sat), NPN Single, 3-Pin CPH, Pb-Free, Tape and Reel; Manufacturer: On Semiconductor; PartNumber: CPH3205-TL-E; IC Continuous (A): 3; PackageReference: CPH-3; PackageDescription: 3-Pin Small Outline Transistor, Body 2.9 x 1.6 mm, Pitch 0.95 mm; Supplier 1: Digi-Key; Supplier Part Number 1: CPH3205-TL-E-ND; Supplier 2: Newark; Supplier Part Number 2: 65T1155; Supplier 3: Mouser; Supplier Part Number 3: 863-CPH3205-TL-E; Packing: Tape and Reel; Polarity: NPN; RoHS: TRUE; Mounting Technology: Surface Mount; ComponentLink1Description: Manufacturer URL; ComponentLink1URL: http://www.onsemi.com/; ComponentLink2Description: Datasheet; ComponentLink2URL: http://www.onsemi.com/pub_link/Collateral/EN6084-D.PDF; ComponentLink3Description: Package Specification; ComponentLink3URL: http://www.onsemi.com/pub_link/Collateral/50A02CH-D.PDF
footprint ONSC-CPH-3_V (SOT23, 3-Leads, Body 2.9x1.6mm, Pitch 0.95mm)
pins: 1 B, 2 E, 3 C

## CPH3209-TL-E
designator Q?
Bipolar Transistor, 30 V, 3 A, Low VCE(sat), NPN Single, 3-Pin CPH, Pb-Free, Tape and Reel; Manufacturer: On Semiconductor; PartNumber: CPH3209-TL-E; IC Continuous (A): 3; PackageReference: CPH-3; PackageDescription: 3-Pin Small Outline Transistor, Body 2.9 x 1.6 mm, Pitch 0.95 mm; Supplier 1: Digi-Key; Supplier Part Number 1: CPH3209-TL-E-ND; Supplier 2: Mouser; Supplier Part Number 2: 863-CPH3209-TL-E; Packing: Tape and Reel; Polarity: NPN; RoHS: TRUE; Mounting Technology: Surface Mount; ComponentLink1Description: Manufacturer URL; ComponentLink1URL: http://www.onsemi.com/; ComponentLink2Description: Datasheet; ComponentLink2URL: http://www.onsemi.com/pub_link/Collateral/EN6078-D.PDF; ComponentLink3Description: Package Specification; ComponentLink3URL: http://www.onsemi.com/pub_link/Collateral/50A02CH-D.PDF
footprint ONSC-CPH-3_V (SOT23, 3-Leads, Body 2.9x1.6mm, Pitch 0.95mm)
pins: 1 B, 2 E, 3 C

## CPH3223-TL-E
designator Q?
Bipolar Transistor, 50 V, 3 A, Low VCE(sat), NPN Single, 3-Pin CPH, Pb-Free, Tape and Reel; Manufacturer: On Semiconductor; PartNumber: CPH3223-TL-E; IC Continuous (A): 3; PackageReference: CPH-3; PackageDescription: 3-Pin Small Outline Transistor, Body 2.9 x 1.6 mm, Pitch 0.95 mm; Supplier 1: Digi-Key; Supplier Part Number 1: CPH3223-TL-E-ND; Supplier 2: Mouser; Supplier Part Number 2: 863-CPH3223-TL-E; Packing: Tape and Reel; Polarity: NPN; RoHS: TRUE; Mounting Technology: Surface Mount; ComponentLink1Description: Manufacturer URL; ComponentLink1URL: http://www.onsemi.com/; ComponentLink2Description: Datasheet; ComponentLink2URL: http://www.onsemi.com/pub_link/Collateral/EN7221-D.PDF; ComponentLink3Description: Package Specification; ComponentLink3URL: http://www.onsemi.com/pub_link/Collateral/50A02CH-D.PDF
footprint ONSC-CPH-3_V (SOT23, 3-Leads, Body 2.9x1.6mm, Pitch 0.95mm)
pins: 1 B, 2 E, 3 C

## CPH3240-TL-E
designator Q?
Bipolar Transistor, 100 V, 1 A, Low VCE(sat), NPN Single, 3-Pin CPH, Pb-Free, Tape and Reel; Manufacturer: On Semiconductor; PartNumber: CPH3240-TL-E; IC Continuous (A): 1; PackageReference: CPH-3; PackageDescription: 3-Pin Small Outline Transistor, Body 2.9 x 1.6 mm, Pitch 0.95 mm; Supplier 1: Digi-Key; Supplier Part Number 1: CPH3240-TL-E-ND; Supplier 2: Mouser; Supplier Part Number 2: 863-CPH3240-TL-E; Packing: Tape and Reel; Polarity: NPN; RoHS: TRUE; Mounting Technology: Surface Mount; ComponentLink1Description: Manufacturer URL; ComponentLink1URL: http://www.onsemi.com/; ComponentLink2Description: Datasheet; ComponentLink2URL: http://www.onsemi.com/pub_link/Collateral/EN7907-D.PDF; ComponentLink3Description: Package Specification; ComponentLink3URL: http://www.onsemi.com/pub_link/Collateral/50A02CH-D.PDF
footprint ONSC-CPH-3_V (SOT23, 3-Leads, Body 2.9x1.6mm, Pitch 0.95mm)
pins: 1 B, 2 E, 3 C

## CPH3245-TL-E
designator Q?
Bipolar Transistor, 50 V, 2 A, Low VCE(sat), NPN Single, 3-Pin CPH, Pb-Free, Tape and Reel; Manufacturer: On Semiconductor; PartNumber: CPH3245-TL-E; IC Continuous (A): 2; PackageReference: CPH-3; PackageDescription: 3-Pin Small Outline Transistor, Body 2.9 x 1.6 mm, Pitch 0.95 mm; Supplier 1: Digi-Key; Supplier Part Number 1: CPH3245-TL-E-ND; Supplier 2: Mouser; Supplier Part Number 2: 863-CPH3245-TL-E; Packing: Tape and Reel; Polarity: NPN; RoHS: TRUE; Mounting Technology: Surface Mount; ComponentLink1Description: Manufacturer URL; ComponentLink1URL: http://www.onsemi.com/; ComponentLink2Description: Datasheet; ComponentLink2URL: http://www.onsemi.com/pub_link/Collateral/EN8166-D.PDF; ComponentLink3Description: Package Specification; ComponentLink3URL: http://www.onsemi.com/pub_link/Collateral/50A02CH-D.PDF
footprint ONSC-CPH-3_V (SOT23, 3-Leads, Body 2.9x1.6mm, Pitch 0.95mm)
pins: 1 B, 2 E, 3 C

## CPH5504-TL-E
designator Q?
Bipolar Transistor, 50 V, 3 A, Low VCE(sat), NPN Dual, 5-Pin CPH, Pb-Free, Tape and Reel; Manufacturer: On Semiconductor; PartNumber: CPH5504-TL-E; IC Continuous (A): 3; PackageReference: CPH-5; PackageDescription: 5-Pin Small Outline Transistor, Body 2.9 x 1.6 mm, Pitch 0.95 mm; Supplier 1: Digi-Key; Supplier Part Number 1: CPH5504-TL-E-ND; Supplier 2: Mouser; Supplier Part Number 2: 863-CPH5504-TL-E; Packing: Tape and Reel; Polarity: NPN; RoHS: TRUE; Mounting Technology: Surface Mount; ComponentLink1Description: Manufacturer URL; ComponentLink1URL: http://www.onsemi.com/; ComponentLink2Description: Datasheet; ComponentLink2URL: http://www.onsemi.com/pub_link/Collateral/CPH5504-D.PDF; ComponentLink3Description: Package Specification; ComponentLink3URL: http://www.onsemi.com/pub_link/Collateral/CPH5504-D.PDF
footprint ONSC-CPH-5_V (SOT23, 5-Leads, Body 2.9x1.6mm, Pitch 0.95mm)
pins: 1 C, 2 C, 3 B, 4 EC, 5 B

## CPH6001A-TL-E
designator Q?
RF Transistor, 12 V, 100 mA, fT=6.7 GHz, NPN Single, 6-Pin CPH, Pb-Free, Tape and Reel; Manufacturer: On Semiconductor; PartNumber: CPH6001A-TL-E; fT Min (MHz): 5000; IC Continuous (A): 0.1; PackageReference: CPH-6; PackageDescription: 6-Pin Small Outline Transistor, Body 2.9 x 1.6 mm, Pitch 0.95 mm; Supplier 1: Digi-Key; Supplier Part Number 1: CPH6001A-TL-E-ND; Supplier 2: Mouser; Supplier Part Number 2: 863-CPH6001A-TL-E; Packing: Tape and Reel; Polarity: NPN; RoHS: TRUE; Mounting Technology: Surface Mount; ComponentLink1Description: Manufacturer URL; ComponentLink1URL: http://www.onsemi.com/; ComponentLink2Description: Datasheet; ComponentLink2URL: http://www.onsemi.com/pub_link/Collateral/CPH6001A-D.PDF; ComponentLink3Description: Package Specification; ComponentLink3URL: http://www.onsemi.com/pub_link/Collateral/CPH6001A-D.PDF
footprint ONSC-CPH-6_V (SOT23, 6-Leads, Body 2.9x1.6mm, Pitch 0.95mm)
pins: 1 C, 2 C, 3 B, 4 E, 5 C, 6 C
text: 1, 2, 5, 6

## CPH6003A-TL-E
designator Q?
RF Transistor, 12 V, 150 mA, fT=7 GHz, NPN Single, 6-Pin CPH, Pb-Free, Tape and Reel; Manufacturer: On Semiconductor; PartNumber: CPH6003A-TL-E; IC Continuous (A): 0.15; PackageReference: CPH-6; PackageDescription: 6-Pin Small Outline Transistor, Body 2.9 x 1.6 mm, Pitch 0.95 mm; Supplier 1: Digi-Key; Supplier Part Number 1: CPH6003A-TL-E-ND; Supplier 2: Mouser; Supplier Part Number 2: 863-CPH6003A-TL-E; Packing: Tape and Reel; Polarity: NPN; RoHS: TRUE; Mounting Technology: Surface Mount; ComponentLink1Description: Manufacturer URL; ComponentLink1URL: http://www.onsemi.com/; ComponentLink2Description: Datasheet; ComponentLink2URL: http://www.onsemi.com/pub_link/Collateral/CPH6003A-D.PDF; ComponentLink3Description: Package Specification; ComponentLink3URL: http://www.onsemi.com/pub_link/Collateral/CPH6001A-D.PDF
footprint ONSC-CPH-6_V (SOT23, 6-Leads, Body 2.9x1.6mm, Pitch 0.95mm)
pins: 1 C, 2 C, 3 B, 4 E, 5 C, 6 C
text: 1, 2, 5, 6

## CPH6020-TL-E
designator Q?
RF Transistor, 8 V, 150 mA, fT=16 GHz, NPN Single, 6-Pin CPH, Pb-Free, Tape and Reel; Manufacturer: On Semiconductor; PartNumber: CPH6020-TL-E; fT Min (MHz): 13000; IC Continuous (A): 0.15; PackageReference: CPH-6; PackageDescription: 6-Pin Small Outline Transistor, Body 2.9 x 1.6 mm, Pitch 0.95 mm; Supplier 1: Digi-Key; Supplier Part Number 1: CPH6020-TL-E-ND; Supplier 2: Mouser; Supplier Part Number 2: 863-CPH6020-TL-E; Packing: Tape and Reel; Polarity: NPN; RoHS: TRUE; Mounting Technology: Surface Mount; ComponentLink1Description: Manufacturer URL; ComponentLink1URL: http://www.onsemi.com/; ComponentLink2Description: Datasheet; ComponentLink2URL: http://www.onsemi.com/pub_link/Collateral/CPH6020-D.PDF; ComponentLink3Description: Package Specification; ComponentLink3URL: http://www.onsemi.com/pub_link/Collateral/CPH6001A-D.PDF
footprint ONSC-CPH-6_V (SOT23, 6-Leads, Body 2.9x1.6mm, Pitch 0.95mm)
pins: 1 C, 2 C, 3 B, 4 E, 5 C, 6 C
text: 1, 2, 5, 6

## CPH6021-TL-H
designator Q?
RF Transistor, 12 V, 100 mA, fT=10 GHz, NPN Single, 6-Pin CPH, Pb-Free, Tape and Reel; Manufacturer: On Semiconductor; PartNumber: CPH6021-TL-H; fT Min (MHz): 8000; IC Continuous (A): 0.1; PackageReference: CPH-6; PackageDescription: 6-Pin Small Outline Transistor, Body 2.9 x 1.6 mm, Pitch 0.95 mm; Supplier 1: Digi-Key; Supplier Part Number 1: CPH6021-TL-H-ND; Supplier 2: Mouser; Supplier Part Number 2: 863-CPH6021-TL-H; Packing: Tape and Reel; Polarity: NPN; RoHS: TRUE; Mounting Technology: Surface Mount; ComponentLink1Description: Manufacturer URL; ComponentLink1URL: http://www.onsemi.com/; ComponentLink2Description: Datasheet; ComponentLink2URL: http://www.onsemi.com/pub_link/Collateral/ENA1910-D.PDF; ComponentLink3Description: Package Specification; ComponentLink3URL: http://www.onsemi.com/pub_link/Collateral/CPH6001A-D.PDF
footprint ONSC-CPH-6_V (SOT23, 6-Leads, Body 2.9x1.6mm, Pitch 0.95mm)
pins: 1 C, 2 C, 3 B, 4 E, 5 C, 6 C
text: 1, 2, 5, 6

## CPH6123-TL-E
designator Q?
Bipolar Transistor, -50 V, -3 A, Low VCE(sat), PNP Single, 6-Pin CPH, Pb-Free, Tape and Reel; Manufacturer: On Semiconductor; PartNumber: CPH6123-TL-E; PackageReference: CPH-6; PackageDescription: 6-Pin Small Outline Transistor, Body 2.9 x 1.6 mm, Pitch 0.95 mm; Supplier 1: Digi-Key; Supplier Part Number 1: 869-1139-2-ND; Supplier 2: Digi-Key; Supplier Part Number 2: 869-1139-1-ND; Supplier 3: Digi-Key; Supplier Part Number 3: 869-1139-6-ND; Supplier 4: Mouser; Supplier Part Number 4: 863-CPH6123-TL-E; IC Continuous (A): -3; Packing: Tape and Reel; Polarity: PNP; RoHS: TRUE; Mounting Technology: Surface Mount; ComponentLink1Description: Manufacturer URL; ComponentLink1URL: http://www.onsemi.com/; ComponentLink2Description: Datasheet; ComponentLink2URL: http://www.onsemi.com/pub_link/Collateral/EN7386-D.PDF; ComponentLink3Description: Package Specification; ComponentLink3URL: http://www.onsemi.com/pub_link/Collateral/CPH6001A-D.PDF
footprint ONSC-CPH-6_V (SOT23, 6-Leads, Body 2.9x1.6mm, Pitch 0.95mm)
pins: 1 C, 2 C, 3 B, 4 E, 5 C, 6 C
text: 1, 2, 5, 6

## CPH6153-TL-E
designator Q?
Bipolar Transistor, -20 V, -3 A, Low VCE(sat), PNP Single, 6-Pin CPH, Pb-Free, Tape and Reel; Manufacturer: On Semiconductor; PartNumber: CPH6153-TL-E; PackageReference: CPH-6; PackageDescription: 6-Pin Small Outline Transistor, Body 2.9 x 1.6 mm, Pitch 0.95 mm; Supplier 1: Digi-Key; Supplier Part Number 1: CPH6153-TL-E-ND; Supplier 2: Mouser; Supplier Part Number 2: 863-CPH6153-TL-E; IC Continuous (A): -3; Packing: Tape and Reel; Polarity: PNP; RoHS: TRUE; Mounting Technology: Surface Mount; ComponentLink1Description: Manufacturer URL; ComponentLink1URL: http://www.onsemi.com/; ComponentLink2Description: Datasheet; ComponentLink2URL: http://www.onsemi.com/pub_link/Collateral/CPH6153-D.PDF; ComponentLink3Description: Package Specification; ComponentLink3URL: http://www.onsemi.com/pub_link/Collateral/CPH6001A-D.PDF
footprint ONSC-CPH-6_V (SOT23, 6-Leads, Body 2.9x1.6mm, Pitch 0.95mm)
pins: 1 C, 2 C, 3 B, 4 E, 5 C, 6 C
text: 1, 2, 5, 6

## CPH6223-TL-E
designator Q?
Bipolar Transistor, 50 V, 3 A, Low VCE(sat), NPN Single, 6-Pin CPH, Pb-Free, Tape and Reel; Manufacturer: On Semiconductor; PartNumber: CPH6223-TL-E; IC Continuous (A): 3; PackageReference: CPH-6; PackageDescription: 6-Pin Small Outline Transistor, Body 2.9 x 1.6 mm, Pitch 0.95 mm; Supplier 1: Digi-Key; Supplier Part Number 1: CPH6223-TL-E-ND; Supplier 2: Mouser; Supplier Part Number 2: 863-CPH6223-TL-E; Packing: Tape and Reel; Polarity: NPN; RoHS: TRUE; Mounting Technology: Surface Mount; ComponentLink1Description: Manufacturer URL; ComponentLink1URL: http://www.onsemi.com/; ComponentLink2Description: Datasheet; ComponentLink2URL: http://www.onsemi.com/pub_link/Collateral/EN7386-D.PDF; ComponentLink3Description: Package Specification; ComponentLink3URL: http://www.onsemi.com/pub_link/Collateral/CPH6001A-D.PDF
footprint ONSC-CPH-6_V (SOT23, 6-Leads, Body 2.9x1.6mm, Pitch 0.95mm)
pins: 1 C, 2 C, 3 B, 4 E, 5 C, 6 C
text: 1, 2, 5, 6

## CPH6501-TL-E
designator Q?
Bipolar Transistor, 30 V, 1.5 A, Low VCE(sat), NPN Dual, 6-Pin CPH, Pb-Free, Tape and Reel; Manufacturer: On Semiconductor; PartNumber: CPH6501-TL-E; IC Continuous (A): 1.5; PackageReference: CPH-6; PackageDescription: 6-Pin Small Outline Transistor, Body 2.9 x 1.6 mm, Pitch 0.95 mm; Supplier 1: Digi-Key; Supplier Part Number 1: CPH6501-TL-E-ND; Supplier 2: Mouser; Supplier Part Number 2: 863-CPH6501-TL-E; Packing: Tape and Reel; Polarity: NPN; RoHS: TRUE; Mounting Technology: Surface Mount; ComponentLink1Description: Manufacturer URL; ComponentLink1URL: http://www.onsemi.com/; ComponentLink2Description: Datasheet; ComponentLink2URL: http://www.onsemi.com/pub_link/Collateral/CPH6501-D.PDF; ComponentLink3Description: Package Specification; ComponentLink3URL: http://www.onsemi.com/pub_link/Collateral/CPH6001A-D.PDF
footprint ONSC-CPH-6_V (SOT23, 6-Leads, Body 2.9x1.6mm, Pitch 0.95mm)
part A pins: 1 E, 2 B, 6 C
part B pins: 3 C, 4 E, 5 B